# Altium footprint library SamacSys.PcbLib: 4 footprints
Each footprint in its own frame and in the unit in brackets; x right, y up, seen from the top. Pads: shape width x height; smd on the part's side, far side on the other; paste and mask are expansions set on the pad; w line width, h text height; cw(c..) or ccw(c..) is an arc to the next point about the centre after c.
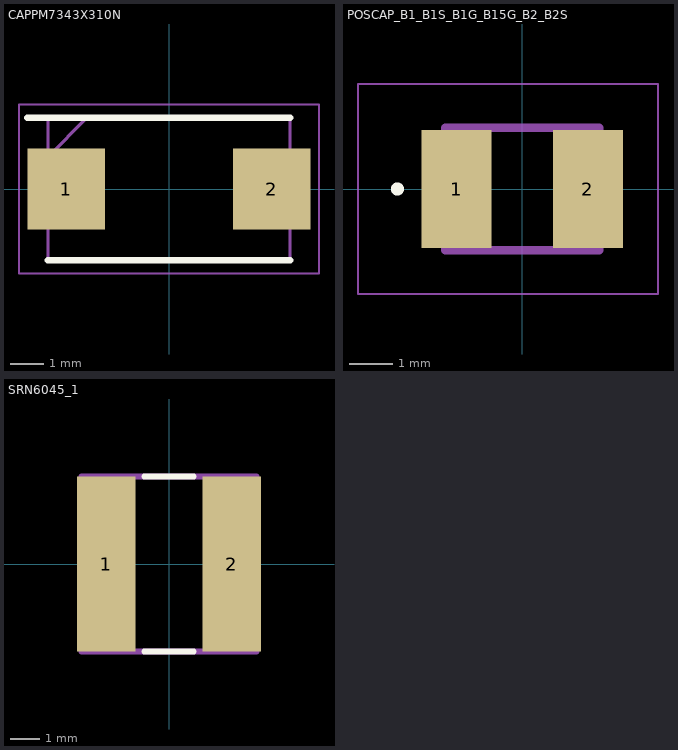
[diagram p0: the footprints below, top view; thin cyan lines are the x and y axes]

## CAPPM7343X310N [mm]
pads (2):
  rect 2.35x2.45 smd: 1(-3.1,0) 2(3.1,0)
Top Overlay:
  lines w0.2: -4.275,2.15 3.65,2.15 ; -3.65,-2.15 3.65,-2.15
Mechanical 13:
  lines w0.1: -3.65,0.975 -2.475,2.15 ; -3.65,-2.15 3.65,-2.15 3.65,2.15 -3.65,2.15 -3.65,-2.15
Mechanical 15:
  lines w0.05: -4.525,-2.55 4.525,-2.55 4.525,2.55 -4.525,2.55 -4.525,-2.55
3D body "593D107X0010D2TE3.stp": height 2.92, standoff 0, extent -3.59,-2.209 3.598,2.207

## PCBComponent_1 [mm]

## POSCAP_B1_B1S_B1G_B15G_B2_B2S [mm]
pads (2):
  rect 1.6x2.7 smd: 1(-1.5,0) 2(1.5,0)
Top Overlay:
  circle w0.2: c-2.85,0 r0.05
Mechanical 13:
  lines w0.2: -1.75,-1.4 -1.75,1.4 1.75,1.4 1.75,-1.4 -1.75,-1.4
Mechanical 15:
  lines w0.05: -3.75,-2.4 -3.75,2.4 3.1,2.4 3.1,-2.4 -3.75,-2.4
3D body "6TPE150MAPB.stp": height -1.62, standoff -1.62, extent 0,13.76 0,13.76

## SRN6045_1 [mm]
pads (2):
  rect 2.01x6 smd: 1(-2.15,0) 2(2.15,0)
Top Overlay:
  lines w0.2: -0.85,-3 0.85,-3 ; -0.85,3 0.85,3
Mechanical 13:
  lines w0.2: -3,-3 -3,3 3,3 3,-3 -3,-3
3D body "SRN6045-100M.stp": height 4.5, standoff 0, extent -3,-3 3,3